# Altium schematic symbol library SIR426DP-T1-GE3.SchLib: 1 symbol
Pins are listed as number, name and electrical type; pins without a type are passive.

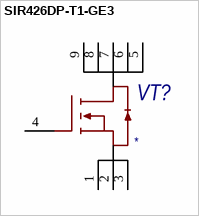
[diagram p0: symbol SIR426DP-T1-GE3]

## SIR426DP-T1-GE3
designator VT?
pins: 1, 2, 3, 4, 5, 6, 7, 8, 9